# Altium footprint library Gelnar.PcbLib: 295 footprints (part 14 of 19)
Each footprint in its own frame and in the unit in brackets; x right, y up, seen from the top. Pads: shape width x height; smd on the part's side, far side on the other; paste and mask are expansions set on the pad; w line width, h text height; cw(c..) or ccw(c..) is an arc to the next point about the centre after c.
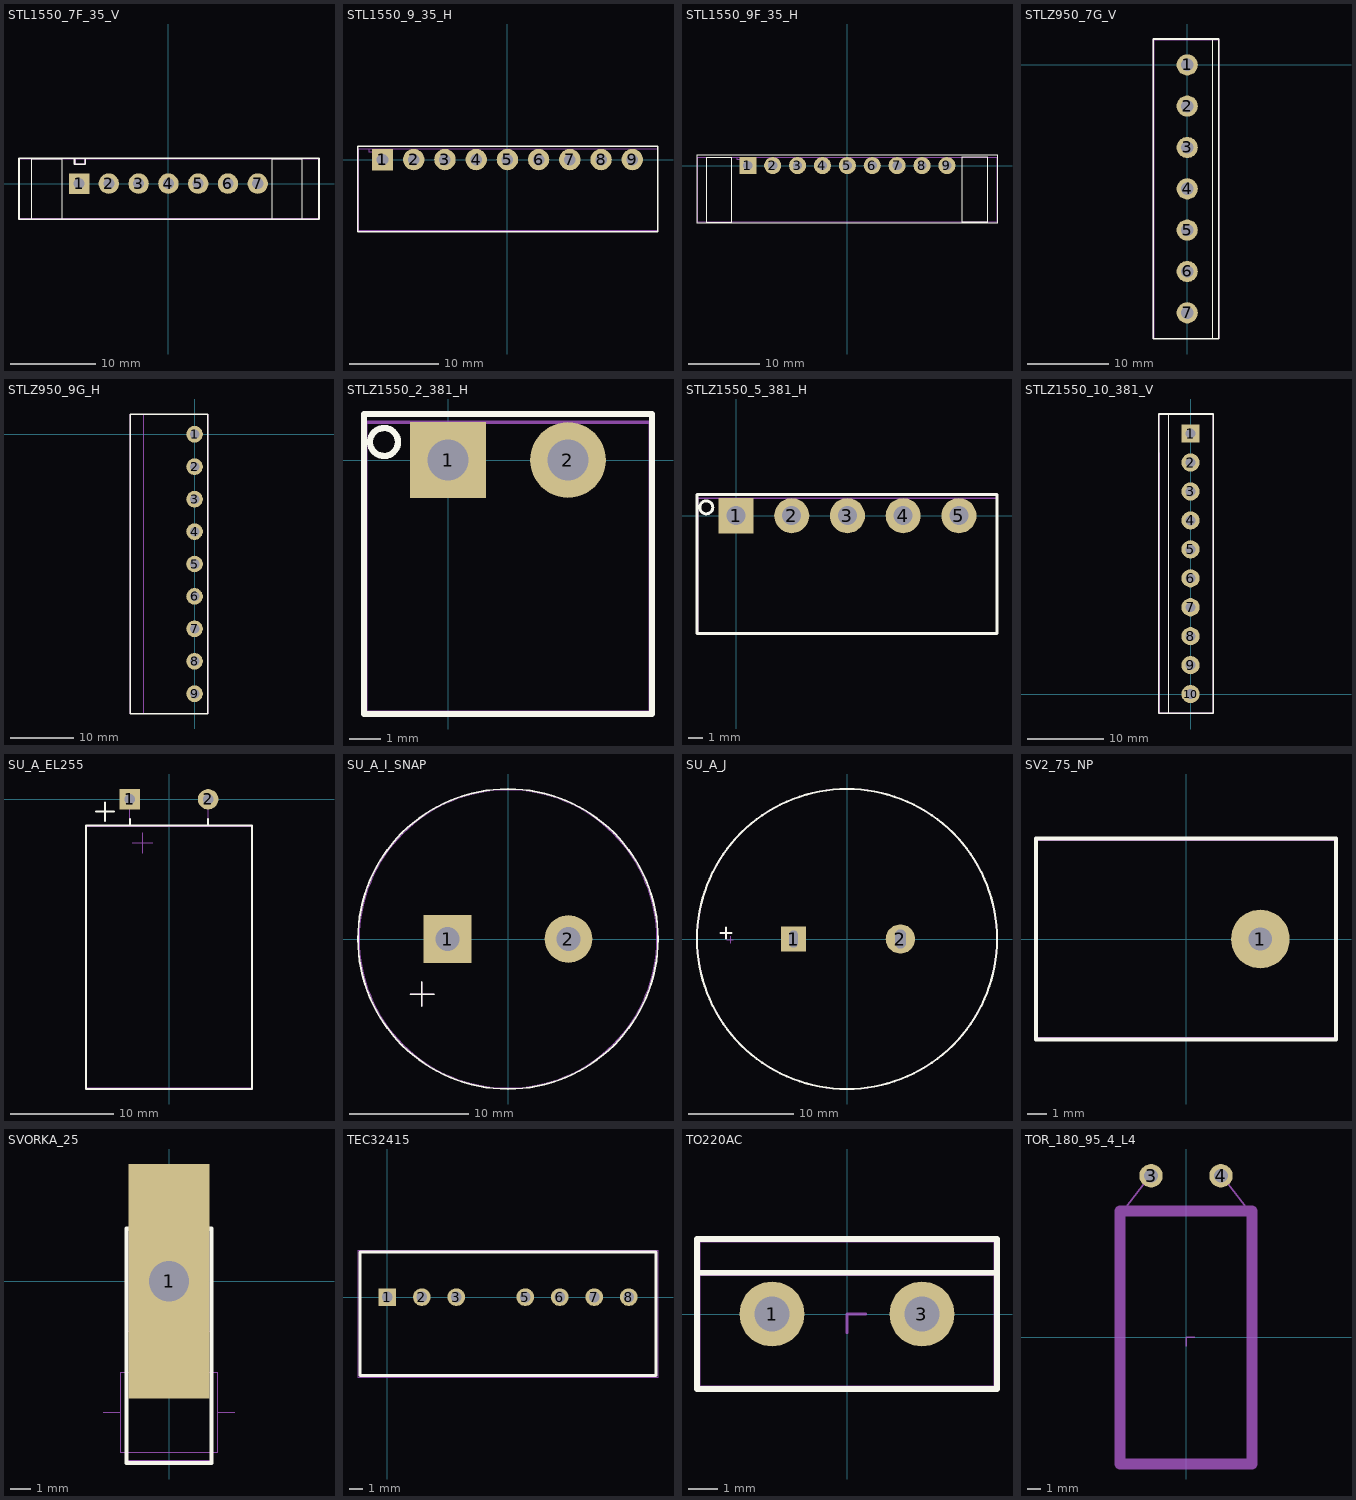
[diagram p13: the footprints below, top view; thin cyan lines are the x and y axes]

## STL1550_7F_35_V [mm]
pads (7):
  rect 2.4x2.4 hole 1.3 mask+0.1: 1(-10.5,0)
  round 2.4 hole 1.3 mask+0.1: 2(-7,0) 3(-3.5,0) 4(0,0) 5(3.5,0) 6(7,0) 7(10.5,0)
Top Overlay:
  lines w0.1: -16.05,-4.25 -12.55,-4.25 -12.55,2.9 -16.05,2.9 -16.05,-4.25 ; 12.2,-4.2 15.7,-4.2 15.7,2.95 12.2,2.95 12.2,-4.2
  lines w0.2: -11.041,2.984 -11.041,2.286 -9.771,2.286 -9.771,2.984 ; -17.554,-4.191 17.699,-4.191 17.699,2.984 -17.554,2.984 -17.554,-4.191
Mechanical 15:
  lines w0.1: -10.96,2.921 -10.96,2.349 -9.86,2.349 -9.86,2.921 ; -17.49,-4.127 17.635,-4.127 17.635,2.921 -17.49,2.921 -17.49,-4.127
Mechanical 20:
  lines w0.1: -17.559,-4.191 17.621,-4.191 17.621,2.984 -17.559,2.984 -17.559,-4.191

## STL1550_9_35_H [mm]
pads (9):
  rect 2.4x2.4 hole 1.3 mask+0.1: 1(-14,0)
  round 2.4 hole 1.3 mask+0.1: 2(-10.5,0) 3(-7,0) 4(-3.5,0) 5(0,0) 6(3.5,0) 7(7,0) 8(10.5,0) 9(14,0)
Top Overlay:
  lines w0.15: -16.745,-8.1 16.879,-8.1 16.879,1.5 -16.745,1.5 -16.745,-8.1
Mechanical 15:
  lines w0.1: -15.545,1.2 -15.545,0.9 -14.445,0.9 -14.445,1.2 ; -16.645,-8 16.816,-8 16.816,1.2 -16.645,1.2 -16.645,-8

## STL1550_9F_35_H [mm]
pads (9):
  rect 2.4x2.4 hole 1.3 mask+0.1: 1(-14,0)
  round 2.4 hole 1.3 mask+0.1: 2(-10.5,0) 3(-7,0) 4(-3.5,0) 5(0,0) 6(3.5,0) 7(7,0) 8(10.5,0) 9(14,0)
Top Overlay:
  lines w0.1: -19.8,-8.05 -16.3,-8.05 -16.3,1.2 -19.8,1.2 -19.8,-8.05 ; 16.15,-8 19.65,-8 19.65,1.25 16.15,1.25 16.15,-8
  lines w0.15: -21.145,-8.1 21.045,-8.1 21.045,1.5 -21.145,1.5 -21.145,-8.1
Mechanical 15:
  lines w0.1: -15.545,1.2 -15.545,0.9 -14.445,0.9 -14.445,1.2 ; -21.045,-8 21,-8 21,1.2 -21.045,1.2 -21.045,-8

## STLZ950_7G_V [mm]
pads (7):
  round 2.6 hole 1.5 mask+0.05: 1(0,0) 2(0,-5.08) 3(0,-10.16) 4(0,-15.24) 5(0,-20.32) 6(0,-25.4) 7(0,-30.48)
Top Overlay:
  lines w0.1: 3.1,-33.7 3.1,3.1
  lines w0.2: -4.196,-33.66 3.895,-33.66 3.895,3.175 -4.196,3.175 -4.196,-33.66
Mechanical 15:
  circle w0.1: c0,0 r0.75
  circle w0.1: c0,-15.24 r0.75
  circle w0.1: c0,-30.48 r0.75
  lines w0.1: -4.101,-33.655 -4.101,3.111 ; -4.133,-33.655 3.832,-33.655 3.832,3.111 -4.133,3.111 -4.133,-33.655
Mechanical 16:
  circle w0.1: c0,0 r0.75
  circle w0.1: c0,-15.24 r0.75
  circle w0.1: c0,-30.48 r0.75
Multi-Layer:
  text "Value" at -6.252,-6.33 h0.75
Mechanical 19:
  lines w0.1: 0,-0.635 0,0 0.635,0
Mechanical 20:
  lines w0.1: -4.196,-33.65 3.895,-33.65 3.895,3.175 -4.196,3.175 -4.196,-33.65

## STLZ950_9G_H [mm]
pads (9):
  round 2.6 hole 1.5 mask+0.05: 1(0,0) 2(0,-5.08) 3(0,-10.16) 4(0,-15.24) 5(0,-20.32) 6(0,-25.4) 7(0,-30.48) 8(0,-35.56) 9(0,-40.64)
Top Overlay:
  lines w0.2: -10.096,-43.815 2.095,-43.815 2.095,3.175 -10.096,3.175 -10.096,-43.815
Mechanical 15:
  circle w0.1: c0,0 r0.75
  circle w0.1: c0,-15.24 r0.75
  circle w0.1: c0,-30.48 r0.75
  lines w0.1: -8.001,-43.815 -8.001,3.111 ; -10.033,-43.752 2.032,-43.752 2.032,3.111 -10.033,3.111 -10.033,-43.752
Mechanical 16:
  circle w0.1: c0,0 r0.75
  circle w0.1: c0,-15.24 r0.75
  circle w0.1: c0,-30.48 r0.75
Multi-Layer:
  text "Value" at -6.252,-6.33 h0.75
Mechanical 19:
  lines w0.1: 0,-0.635 0,0 0.635,0
Mechanical 20:
  lines w0.1: -10.096,-43.815 2.095,-43.815 2.095,3.175 -10.096,3.175 -10.096,-43.815

## STLZ1550_2_381_H [mm]
pads (2):
  rect 2.4x2.4 hole 1.3 mask+0.1: 1(0,0)
  round 2.4 hole 1.3 mask+0.1: 2(3.81,0)
Top Overlay:
  circle w0.2: c-2.032,0.572 r0.445
  lines w0.2: -2.667,-8.064 6.477,-8.064 6.477,1.46 -2.667,1.46 -2.667,-8.064
Mechanical 15:
  lines w0.1: -0.46,1.2 -0.46,0.9 0.64,0.9 0.64,1.2 ; -2.603,-8.001 6.413,-8.001 6.413,1.2 -2.603,1.2 -2.603,-8.001
Mechanical 20:
  lines w0.1: -2.667,-8.064 6.477,-8.064 6.477,1.46 -2.667,1.46 -2.667,-8.064

## STLZ1550_5_381_H [mm]
pads (5):
  rect 2.4x2.4 hole 1.3 mask+0.1: 1(0,0)
  round 2.4 hole 1.3 mask+0.1: 2(3.81,0) 3(7.62,0) 4(11.43,0) 5(15.24,0)
Top Overlay:
  circle w0.2: c-2.032,0.572 r0.445
  lines w0.2: -2.667,-8.064 17.843,-8.064 17.843,1.46 -2.667,1.46 -2.667,-8.064
Mechanical 15:
  lines w0.1: -0.46,1.2 -0.46,0.9 0.64,0.9 0.64,1.2 ; -2.603,-8.001 17.843,-8.001 17.843,1.2 -2.603,1.2 -2.603,-8.001
Multi-Layer:
  text "Value" at 14.102,-5.111 h0.75
Mechanical 20:
  lines w0.1: -2.667,-8.064 17.843,-8.064 17.843,1.46 -2.667,1.46 -2.667,-8.064

## STLZ1550_10_381_V [mm]
pads (10):
  rect 2.4x2.4 hole 1.3 mask+0.05: 1(0,34.29)
  round 2.4 hole 1.3 mask+0.05: 2(0,30.48) 3(0,26.67) 4(0,22.86) 5(0,19.05) 6(0,15.24) 7(0,11.43) 8(0,7.62) 9(0,3.81) 10(0,0)
Top Overlay:
  lines w0.1: -2.95,-2.62 -2.95,36.69
  lines w0.2: -4.196,-2.52 2.996,-2.52 2.996,36.865 -4.196,36.865 -4.196,-2.52
Mechanical 15:
  circle w0.1: c0,34.29 r0.75
  circle w0.1: c0,19.05 r0.75
  circle w0.1: c0,3.81 r0.75
  circle w0.1: c0,0 r0.75
  circle w0.1: c0,7.62 r0.75
  circle w0.1: c0,11.43 r0.75
  circle w0.1: c0,15.24 r0.75
  circle w0.1: c0,22.86 r0.75
  circle w0.1: c0,30.48 r0.75
  circle w0.1: c0,26.67 r0.75
  lines w0.1: -4.101,-2.365 -4.101,31.79 ; -4.133,-2.5 2.932,-2.5 2.932,36.801 -4.133,36.801 -4.133,-2.5
Mechanical 16:
  circle w0.1: c0,34.29 r0.75
  circle w0.1: c0,19.05 r0.75
  circle w0.1: c0,3.81 r0.75
Multi-Layer:
  text "Value" at -6.252,-6.33 h0.75
Mechanical 19:
  lines w0.1: 0,33.655 0,34.29 0.635,34.29
Mechanical 20:
  lines w0.1: -4.196,-2.52 2.996,-2.52 2.996,36.865 -4.196,36.865 -4.196,-2.52

## SU_A_EL255 [mm]
pads (2):
  rect 2x2 hole 1 mask+0.1: 1(-3.81,0)
  round 2 hole 1 mask+0.1: 2(3.81,0)
Top Overlay:
  lines w0.2: -7.112,-1.206 -5.334,-1.206 ; -6.222,-2.095 -6.222,-0.318 ; -3.81,-2.54 -3.81,-1.905 ; 3.81,-2.54 3.81,-1.905 ; -8.064,-28.2 8.064,-28.2 8.064,-2.54 -8.064,-2.54 -8.064,-28.2
Mechanical 15:
  lines w0.1: -3.81,-2.603 -3.81,0 ; -3.587,-4.255 -1.587,-4.255 ; -2.587,-5.255 -2.587,-3.254 ; 3.81,-2.603 3.81,0 ; -8.001,-28.16 8.001,-28.16 8.001,-2.603 -8.001,-2.603 -8.001,-28.16
Multi-Layer:
  text "Value" at -1.553,-10.521 h0.75
Mechanical 20:
  lines w0.1: -8.064,-28.124 8.064,-28.124 8.064,-2.54 -8.064,-2.54 -8.064,-28.124

## SU_A_I_SNAP [mm]
height 9.5
pads (2):
  rect 4x4 hole 2 mask+0.1: 1(-5.08,0)
  round 4 hole 2 mask+0.1: 2(5.08,0)
Top Overlay:
  circle w0.15: c0,0 r12.6
  lines w0.15: -8.191,-4.635 -6.223,-4.635 ; -7.239,-5.651 -7.239,-3.619
Mechanical 15:
  circle w0.1: c0,0 r12.5
  lines w0.1: -8.191,-4.635 -6.223,-4.635 ; -7.239,-5.651 -7.239,-3.619

## SU_A_J [mm]
pads (2):
  rrect0% 2.4x2.4 / inner rect 2.4x2.4 / far side rect 2.4x2.4 hole 0.8 slot 1.6 at 90 deg mask+0.05: 1(-5.08,0)
  rrect100% 2.8x2.8 hole 1 slot 1.8 at 90 deg mask+0.05: 2(5.08,0)
Top Overlay:
  circle w0.2: c0,0 r14.257
  lines w0.2: -12.002,0.572 -10.986,0.572 ; -11.493,0.064 -11.493,1.079
Mechanical 15:
  circle w0.01: c0,0 r14.251
  lines w0.1: -11.43,-0.064 -10.795,-0.064 ; -11.112,-0.381 -11.112,0.254
Mechanical 20:
  circle w0.01: c0,0 r14.257

## SV2_75_NP [mm]
height 9.5
pads (1):
  round 3 hole 1.2 mask+0.1: 1(3.81,0)
Top Overlay:
  lines w0.2: -7.683,-5.143 7.683,-5.143 7.683,5.143 -7.683,5.143 -7.683,-5.143
Mechanical 15:
  lines w0.1: -7.62,-5.08 7.62,-5.08 7.62,5.08 -7.62,5.08 -7.62,-5.08
Multi-Layer:
  text "Value" at -1.108,-1.353 h0.75

## SVORKA_25 [mm]
height 9.5
pads (1):
  rect 4x11.6 / inner rect 4x5 / far side rect 4x5 hole 2 mask+0.1: 1(0,0)
Top Overlay:
  lines w0.2: -2.1,-9 2.1,-9 2.1,2.6 -2.1,2.6 -2.1,-9
Mechanical 15:
  lines w0.01: -2.05,-8.9 2.05,-8.9 2.05,2.55 -2.05,2.55 -2.05,-8.9
Mechanical 16:
  lines w0.01: -3.25,-6.5 -2.4,-6.5 ; 2.4,-6.5 3.25,-6.5 ; -2.4,-8.5 2.4,-8.5 2.4,-4.5 -2.4,-4.5 -2.4,-8.5 ; -2.025,-2.5 2.025,-2.5 2.025,2.5 -2.025,2.5 -2.025,-2.5
Multi-Layer:
  text "Value" at -1.108,-1.237 h0.75
Mechanical 20:
  lines w0.01: -2.1,-9.05 2.1,-9.05 2.1,2.6 -2.1,2.6 -2.1,-9.05

## TEC32415 [mm]
pads (7):
  rect 1.3x1.3 hole 0.8 mask+0.05: 1(0,0)
  round 1.3 hole 0.8 mask+0.05: 2(2.54,0) 3(5.08,0) 5(10.16,0) 6(12.7,0) 7(15.24,0) 8(17.78,0)
Top Overlay:
  lines w0.2: -2.01,-5.775 19.79,-5.775 19.79,3.325 -2.01,3.325 -2.01,-5.775
Mechanical 15:
  lines w0.01: -2.01,-5.775 19.79,-5.775 19.79,3.325 -2.01,3.325 -2.01,-5.775
Multi-Layer:
  text "Value" at 8.345,-1.87 h0.64
Mechanical 20:
  lines w0.01: -2.157,-5.947 19.932,-5.947 19.932,3.464 -2.157,3.464 -2.157,-5.947

## TO220AC [mm]
pads (2):
  round 2.2 hole 1.2 mask+0.1: 1(-2.54,0) 3(2.54,0)
Top Overlay:
  lines w0.2: -5.08,1.397 5.08,1.397 ; -5.08,-2.54 5.08,-2.54 5.08,2.54 -5.08,2.54 -5.08,-2.54
Mechanical 15:
  lines w0.1: -5.016,1.333 5.016,1.333 ; -5.016,-2.476 5.016,-2.476 5.016,2.476 -5.016,2.476 -5.016,-2.476
Multi-Layer:
  text "Value" at -1.299,-2.076 h0.75
Mechanical 19:
  lines w0.1: 0,-0.635 0,0 0.635,0
Mechanical 20:
  lines w0.1: -5.08,-2.54 5.08,-2.54 5.08,2.54 -5.08,2.54 -5.08,-2.54

## TOR_180_95_4_L4 [mm]
pads (2):
  round 1.7 hole 1 mask+0.1: 3(-2.54,11.747) 4(2.54,11.747)
Mechanical 15:
  circle w0.1: c2.54,11.747 r0.5
  circle w0.1: c-2.54,11.874 r0.5
  lines w0.1: -4.699,9.017 -2.73,11.557 ; 2.857,11.43 4.699,9.017 ; -4.8,-9 -4.8,9 4.8,9 4.8,-9 -4.8,-9
Mechanical 16:
  circle w0.1: c2.54,11.747 r0.5
  circle w0.1: c-2.54,11.874 r0.5
  lines w0.8: -4.8,-9.2 4.8,-9.2 4.8,9.2 -4.8,9.2 -4.8,-9.2
Mechanical 19:
  lines w0.1: 0,-0.635 0,0 0.635,0
Mechanical 20:
  lines w0.1: -4.889,-9.08 -4.889,9.08 4.889,9.08 4.889,-9.08 -4.889,-9.08